# Altium footprint library Connectors-WR-PHD_Pin Header.PcbLib: 232 footprints (part 14 of 15)
Each footprint in its own frame and in the unit in brackets; x right, y up, seen from the top. Pads: shape width x height; smd on the part's side, far side on the other; paste and mask are expansions set on the pad; w line width, h text height; cw(c..) or ccw(c..) is an arc to the next point about the centre after c.
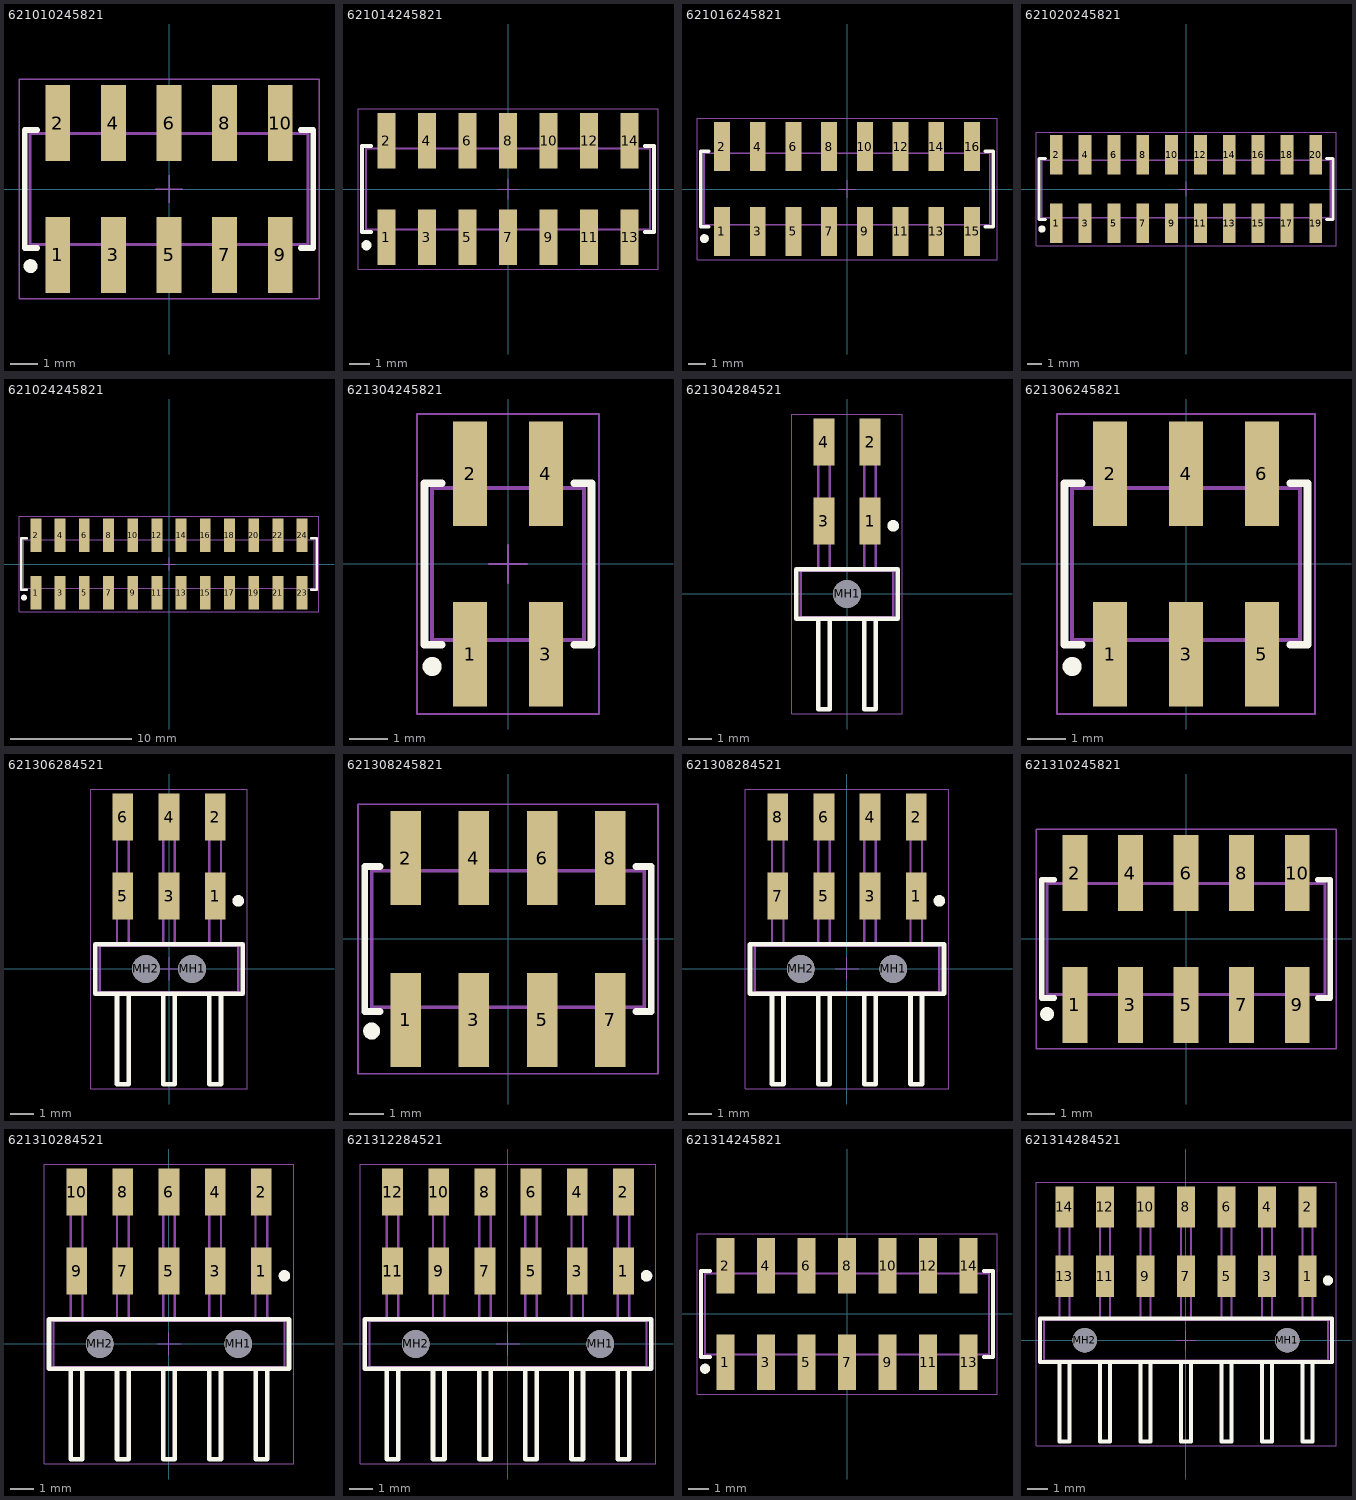
[diagram p13: the footprints below, top view; thin cyan lines are the x and y axes]

## 621010245821 [mm] "Pin Header, pitch 2.00 mm, SMD, Vertical, dual row, 10p"
height 4.8
pads (10):
  rect 0.89x2.75 smd: 1(-4,-2.375) 2(-4,2.375) 3(-2,-2.375) 4(-2,2.375) 5(0,-2.375) 6(0,2.375) 7(2,-2.375) 8(2,2.375) 9(4,-2.375) 10(4,2.375)
Top Overlay:
  circle w0.25: c-4.985,-2.776 r0.125
  lines w0.2: -4.75,-2.125 -5.2,-2.125 -5.2,2.125 -4.75,2.125 ; 4.75,-2.125 5.2,-2.125 5.2,2.125 4.75,2.125
Top Designator:
  text ".Designator" at -7.498,-0.5 h1.5
Top Component Outline:
  lines w0.1: -4.25,-2 -4.25,-3.1 -3.75,-3.1 -3.75,-2 ; -4.25,2 -4.25,3.1 -3.75,3.1 -3.75,2 ; -2.25,-2 -2.25,-3.1 -1.75,-3.1 -1.75,-2 ; -2.25,2 -2.25,3.1 -1.75,3.1 -1.75,2 ; -0.25,-2 -0.25,-3.1 0.25,-3.1 0.25,-2 ; -0.25,2 -0.25,3.1 0.25,3.1 0.25,2 ; 1.75,-2 1.75,-3.1 2.25,-3.1 2.25,-2 ; 1.75,2 1.75,3.1 2.25,3.1 2.25,2 ; 3.75,-2 3.75,-3.1 4.25,-3.1 4.25,-2 ; 3.75,2 3.75,3.1 4.25,3.1 4.25,2 ; -5,-2 5,-2 5,2 -5,2 -5,-2
Top Courtyard:
  lines w0.05: -5.4,-3.95 5.4,-3.95 5.4,3.95 -5.4,3.95 -5.4,-3.95
Top Component Center:
  lines w0.05: -0.5,0 0.5,0 ; 0,-0.5 0,0.5
3D body "621010245821.stp": height 4.7, standoff 0, extent -5,-3.1 5,3.1

## 621014245821 [mm] "Pin Header, pitch 2.00 mm, SMD, Vertical, dual row, 14p"
height 4.8
pads (14):
  rect 0.89x2.75 smd: 1(-6,-2.375) 2(-6,2.375) 3(-4,-2.375) 4(-4,2.375) 5(-2,-2.375) 6(-2,2.375) 7(0,-2.375) 8(0,2.375) 9(2,-2.375) 10(2,2.375) 11(4,-2.375) 12(4,2.375) 13(6,-2.375) 14(6,2.375)
Top Overlay:
  circle w0.25: c-6.985,-2.776 r0.125
  lines w0.2: -6.75,-2.125 -7.2,-2.125 -7.2,2.125 -6.75,2.125 ; 6.75,-2.125 7.2,-2.125 7.2,2.125 6.75,2.125
Top Designator:
  text ".Designator" at -7.498,-0.5 h1.5
Top Component Outline:
  lines w0.1: -6.25,-2 -6.25,-3.1 -5.75,-3.1 -5.75,-2 ; -6.25,2 -6.25,3.1 -5.75,3.1 -5.75,2 ; -4.25,-2 -4.25,-3.1 -3.75,-3.1 -3.75,-2 ; -4.25,2 -4.25,3.1 -3.75,3.1 -3.75,2 ; -2.25,-2 -2.25,-3.1 -1.75,-3.1 -1.75,-2 ; -2.25,2 -2.25,3.1 -1.75,3.1 -1.75,2 ; -0.25,-2 -0.25,-3.1 0.25,-3.1 0.25,-2 ; -0.25,2 -0.25,3.1 0.25,3.1 0.25,2 ; 1.75,-2 1.75,-3.1 2.25,-3.1 2.25,-2 ; 1.75,2 1.75,3.1 2.25,3.1 2.25,2 ; 3.75,-2 3.75,-3.1 4.25,-3.1 4.25,-2 ; 3.75,2 3.75,3.1 4.25,3.1 4.25,2 ; 5.75,-2 5.75,-3.1 6.25,-3.1 6.25,-2 ; 5.75,2 5.75,3.1 6.25,3.1 6.25,2 ; -7,-2 7,-2 7,2 -7,2 -7,-2
Top Courtyard:
  lines w0.05: -7.4,-3.95 7.4,-3.95 7.4,3.95 -7.4,3.95 -7.4,-3.95
Top Component Center:
  lines w0.05: -0.5,0 0.5,0 ; 0,-0.5 0,0.5
3D body "621014245821.stp": height 4.7, standoff 0, extent -7,-3.1 7,3.1

## 621016245821 [mm] "Pin Header, pitch 2.00 mm, SMD, Vertical, dual row, 16p"
height 4.8
pads (16):
  rect 0.89x2.75 smd: 1(-7,-2.375) 2(-7,2.375) 3(-5,-2.375) 4(-5,2.375) 5(-3,-2.375) 6(-3,2.375) 7(-1,-2.375) 8(-1,2.375) 9(1,-2.375) 10(1,2.375) 11(3,-2.375) 12(3,2.375) 13(5,-2.375) 14(5,2.375) 15(7,-2.375) 16(7,2.375)
Top Overlay:
  circle w0.25: c-7.985,-2.776 r0.125
  lines w0.2: -7.75,-2.125 -8.2,-2.125 -8.2,2.125 -7.75,2.125 ; 7.75,-2.125 8.2,-2.125 8.2,2.125 7.75,2.125
Top Designator:
  text ".Designator" at -7.498,-0.5 h1.5
Top Component Outline:
  lines w0.1: -7.25,-2 -7.25,-3.1 -6.75,-3.1 -6.75,-2 ; -7.25,2 -7.25,3.1 -6.75,3.1 -6.75,2 ; -5.25,-2 -5.25,-3.1 -4.75,-3.1 -4.75,-2 ; -5.25,2 -5.25,3.1 -4.75,3.1 -4.75,2 ; -3.25,-2 -3.25,-3.1 -2.75,-3.1 -2.75,-2 ; -3.25,2 -3.25,3.1 -2.75,3.1 -2.75,2 ; -1.25,-2 -1.25,-3.1 -0.75,-3.1 -0.75,-2 ; -1.25,2 -1.25,3.1 -0.75,3.1 -0.75,2 ; 0.75,-2 0.75,-3.1 1.25,-3.1 1.25,-2 ; 0.75,2 0.75,3.1 1.25,3.1 1.25,2 ; 2.75,-2 2.75,-3.1 3.25,-3.1 3.25,-2 ; 2.75,2 2.75,3.1 3.25,3.1 3.25,2 ; 4.75,-2 4.75,-3.1 5.25,-3.1 5.25,-2 ; 4.75,2 4.75,3.1 5.25,3.1 5.25,2 ; 6.75,-2 6.75,-3.1 7.25,-3.1 7.25,-2 ; 6.75,2 6.75,3.1 7.25,3.1 7.25,2 ; -8,-2 -8,2 8,2 8,-2 -8,-2
Top Courtyard:
  lines w0.05: -8.4,-3.95 -8.4,3.95 8.4,3.95 8.4,-3.95 -8.4,-3.95
Top Component Center:
  lines w0.05: -0.5,0 0.5,0 ; 0,-0.5 0,0.5
3D body "621016245821.stp": height 4.7, standoff 0, extent -8,-3.1 8,3.1

## 621020245821 [mm] "Pin Header, pitch 2.00 mm, SMD, Vertical, dual row, 20p"
height 4.8
pads (20):
  rect 0.89x2.75 smd: 1(-9,-2.375) 2(-9,2.375) 3(-7,-2.375) 4(-7,2.375) 5(-5,-2.375) 6(-5,2.375) 7(-3,-2.375) 8(-3,2.375) 9(-1,-2.375) 10(-1,2.375) 11(1,-2.375) 12(1,2.375) 13(3,-2.375) 14(3,2.375) 15(5,-2.375) 16(5,2.375) 17(7,-2.375) 18(7,2.375) 19(9,-2.375) 20(9,2.375)
Top Overlay:
  circle w0.25: c-9.985,-2.776 r0.125
  lines w0.2: -9.75,-2.125 -10.2,-2.125 -10.2,2.125 -9.75,2.125 ; 9.75,-2.125 10.2,-2.125 10.2,2.125 9.75,2.125
Top Designator:
  text ".Designator" at -7.498,-0.5 h1.5
Top Component Outline:
  lines w0.1: -9.25,-2 -9.25,-3.1 -8.75,-3.1 -8.75,-2 ; -9.25,2 -9.25,3.1 -8.75,3.1 -8.75,2 ; -7.25,-2 -7.25,-3.1 -6.75,-3.1 -6.75,-2 ; -7.25,2 -7.25,3.1 -6.75,3.1 -6.75,2 ; -5.25,-2 -5.25,-3.1 -4.75,-3.1 -4.75,-2 ; -5.25,2 -5.25,3.1 -4.75,3.1 -4.75,2 ; -3.25,-2 -3.25,-3.1 -2.75,-3.1 -2.75,-2 ; -3.25,2 -3.25,3.1 -2.75,3.1 -2.75,2 ; -1.25,-2 -1.25,-3.1 -0.75,-3.1 -0.75,-2 ; -1.25,2 -1.25,3.1 -0.75,3.1 -0.75,2 ; 0.75,-2 0.75,-3.1 1.25,-3.1 1.25,-2 ; 0.75,2 0.75,3.1 1.25,3.1 1.25,2 ; 2.75,-2 2.75,-3.1 3.25,-3.1 3.25,-2 ; 2.75,2 2.75,3.1 3.25,3.1 3.25,2 ; 4.75,-2 4.75,-3.1 5.25,-3.1 5.25,-2 ; 4.75,2 4.75,3.1 5.25,3.1 5.25,2 ; 6.75,-2 6.75,-3.1 7.25,-3.1 7.25,-2 ; 6.75,2 6.75,3.1 7.25,3.1 7.25,2 ; 8.75,-2 8.75,-3.1 9.25,-3.1 9.25,-2 ; 8.75,2 8.75,3.1 9.25,3.1 9.25,2 ; -10,-2 -10,2 10,2 10,-2 -10,-2
Top Courtyard:
  lines w0.05: -10.4,-3.95 -10.4,3.95 10.4,3.95 10.4,-3.95 -10.4,-3.95
Top Component Center:
  lines w0.05: -0.5,0 0.5,0 ; 0,-0.5 0,0.5
3D body "621020245821.stp": height 4.7, standoff 0, extent -10,-3.1 10,3.1

## 621024245821 [mm] "Pin Header, pitch 2.00 mm, SMD, Vertical, dual row, 24p"
height 4.8
pads (24):
  rect 0.89x2.75 smd: 1(-11,-2.375) 2(-11,2.375) 3(-9,-2.375) 4(-9,2.375) 5(-7,-2.375) 6(-7,2.375) 7(-5,-2.375) 8(-5,2.375) 9(-3,-2.375) 10(-3,2.375) 11(-1,-2.375) 12(-1,2.375) 13(1,-2.375) 14(1,2.375) 15(3,-2.375) 16(3,2.375) 17(5,-2.375) 18(5,2.375) 19(7,-2.375) 20(7,2.375) 21(9,-2.375) 22(9,2.375) 23(11,-2.375) 24(11,2.375)
Top Overlay:
  circle w0.25: c-11.985,-2.776 r0.125
  lines w0.2: -11.75,-2.125 -12.2,-2.125 -12.2,2.125 -11.75,2.125 ; 11.75,-2.125 12.2,-2.125 12.2,2.125 11.75,2.125
Top Designator:
  text ".Designator" at -7.498,-0.5 h1.5
Top Component Outline:
  lines w0.1: -11.25,-2 -11.25,-3.1 -10.75,-3.1 -10.75,-2 ; -11.25,2 -11.25,3.1 -10.75,3.1 -10.75,2 ; -9.25,-2 -9.25,-3.1 -8.75,-3.1 -8.75,-2 ; -9.25,2 -9.25,3.1 -8.75,3.1 -8.75,2 ; -7.25,-2 -7.25,-3.1 -6.75,-3.1 -6.75,-2 ; -7.25,2 -7.25,3.1 -6.75,3.1 -6.75,2 ; -5.25,-2 -5.25,-3.1 -4.75,-3.1 -4.75,-2 ; -5.25,2 -5.25,3.1 -4.75,3.1 -4.75,2 ; -3.25,-2 -3.25,-3.1 -2.75,-3.1 -2.75,-2 ; -3.25,2 -3.25,3.1 -2.75,3.1 -2.75,2 ; -1.25,-2 -1.25,-3.1 -0.75,-3.1 -0.75,-2 ; -1.25,2 -1.25,3.1 -0.75,3.1 -0.75,2 ; 0.75,-2 0.75,-3.1 1.25,-3.1 1.25,-2 ; 0.75,2 0.75,3.1 1.25,3.1 1.25,2 ; 2.75,-2 2.75,-3.1 3.25,-3.1 3.25,-2 ; 2.75,2 2.75,3.1 3.25,3.1 3.25,2 ; 4.75,-2 4.75,-3.1 5.25,-3.1 5.25,-2 ; 4.75,2 4.75,3.1 5.25,3.1 5.25,2 ; 6.75,-2 6.75,-3.1 7.25,-3.1 7.25,-2 ; 6.75,2 6.75,3.1 7.25,3.1 7.25,2 ; 8.75,-2 8.75,-3.1 9.25,-3.1 9.25,-2 ; 8.75,2 8.75,3.1 9.25,3.1 9.25,2 ; 10.75,-2 10.75,-3.1 11.25,-3.1 11.25,-2 ; 10.75,2 10.75,3.1 11.25,3.1 11.25,2 ; -12,-2 12,-2 12,2 -12,2 -12,-2
Top Courtyard:
  lines w0.05: -12.4,-3.95 12.4,-3.95 12.4,3.95 -12.4,3.95 -12.4,-3.95
Top Component Center:
  lines w0.05: -0.5,0 0.5,0 ; 0,-0.5 0,0.5
3D body "621024245821.stp": height 4.7, standoff 0, extent -12,-3.1 12,3.1

## 621304245821 [mm] "2.00 mm SMT Dual Pin Header Low Profile (Reel), 4p"
height 4.7
pads (4):
  rect 0.89x2.75 smd: 1(-1,-2.375) 2(-1,2.375) 3(1,-2.375) 4(1,2.375)
Top Overlay:
  circle w0.25: c-2,-2.7 r0.125
  lines w0.2: -1.75,-2.125 -2.2,-2.125 -2.2,2.125 -1.75,2.125 ; 1.75,-2.125 2.2,-2.125 2.2,2.125 1.75,2.125
Top Designator:
  text ".Designator" at -4.998,-0.333 h1
Top Component Outline:
  lines w0.1: -1.25,-2 -1.25,-3.1 -0.75,-3.1 -0.75,-2 ; -1.25,2 -1.25,3.1 -0.75,3.1 -0.75,2 ; 0.75,-2 0.75,-3.1 1.25,-3.1 1.25,-2 ; 0.75,2 0.75,3.1 1.25,3.1 1.25,2 ; -2,-2 2,-2 2,2 -2,2 -2,-2
Top Courtyard:
  lines w0.05: -2.4,-3.95 2.4,-3.95 2.4,3.95 -2.4,3.95 -2.4,-3.95
Top Component Center:
  lines w0.05: -0.5,0 0.5,0 ; 0,-0.5 0,0.5
3D body "621304245821.stp": height 4.7, standoff 0, extent -2,-3.1 2,3.1

## 621304284521 [mm] "Pin Header, pitch 2.00 mm, SMD, Angled, dual row, 4p"
height 5.5
pads (5):
  rect 0.9x2.03 smd: 1(1,3.16) 2(1,6.58) 3(-1,3.16) 4(-1,6.58)
  round 1.2 hole 1.2 unplated: MH1(0,0)
Top Overlay:
  circle w0.25: c2,2.95 r0.125
  lines w0.2: -1.25,-1.075 -1.25,-5 -0.75,-5 -0.75,-1.075 ; 0.75,-1.075 0.75,-5 1.25,-5 1.25,-1.075 ; -2.2,-1.075 -2.2,1.075 2.2,1.075 2.2,-1.075 -2.2,-1.075
Top Designator:
  text ".Designator" at -5.998,-0.4 h1.2
Top Component Outline:
  lines w0.1: -1.25,-1 -1.25,-5 -0.75,-5 -0.75,-1 ; -1.25,1 -1.25,7.22 -0.75,7.22 -0.75,1 ; -1.25,3.8 -0.75,3.8 ; 0.75,-1 0.75,-5 1.25,-5 1.25,-1 ; 0.75,1 0.75,7.22 1.25,7.22 1.25,1 ; 0.75,3.8 1.25,3.8 ; -2,-1 2,-1 2,1 -2,1 -2,-1
Top Courtyard:
  lines w0.05: -2.4,-5.2 2.4,-5.2 2.4,7.795 -2.4,7.795 -2.4,-5.2
Top Component Center:
  lines w0.05: -0.5,0 0.5,0 ; 0,-0.5 0,0.5
3D body "621304284521.stp": height 4.02, standoff -0.98, extent -2,-5 2,7.22

## 621306245821 [mm] "2.00 mm SMT Dual Pin Header Low Profile (Reel), 6p"
height 4.7
pads (6):
  rect 0.89x2.75 smd: 1(-2,-2.375) 2(-2,2.375) 3(0,-2.375) 4(0,2.375) 5(2,-2.375) 6(2,2.375)
Top Overlay:
  circle w0.25: c-3,-2.7 r0.125
  lines w0.2: -2.75,-2.125 -3.2,-2.125 -3.2,2.125 -2.75,2.125 ; 2.75,-2.125 3.2,-2.125 3.2,2.125 2.75,2.125
Top Component Outline:
  lines w0.1: -2.25,-2 -2.25,-3.1 -1.75,-3.1 -1.75,-2 ; -2.25,2 -2.25,3.1 -1.75,3.1 -1.75,2 ; -0.25,-2 -0.25,-3.1 0.25,-3.1 0.25,-2 ; -0.25,2 -0.25,3.1 0.25,3.1 0.25,2 ; 1.75,-2 1.75,-3.1 2.25,-3.1 2.25,-2 ; 1.75,2 1.75,3.1 2.25,3.1 2.25,2 ; -3,-2 -3,2 3,2 3,-2 -3,-2
Top Courtyard:
  lines w0.05: -3.4,-3.95 -3.4,3.95 3.4,3.95 3.4,-3.95 -3.4,-3.95
3D body "621306245821.stp": height 4.7, standoff 0, extent -3,-3.1 3,3.1

## 621306284521 [mm] "Pin Header, pitch 2.00 mm, SMD, Angled, dual row, 6p"
height 5.5
pads (8):
  rect 0.9x2.03 smd: 1(2,3.16) 2(2,6.58) 3(0,3.16) 4(0,6.58) 5(-2,3.16) 6(-2,6.58)
  round 1.2 hole 1.2 unplated: MH1(1,0) MH2(-1,0)
Top Overlay:
  circle w0.25: c3,2.95 r0.125
  lines w0.2: -2.25,-1.075 -2.25,-5 -1.75,-5 -1.75,-1.075 ; -0.25,-1.075 -0.25,-5 0.25,-5 0.25,-1.075 ; 1.75,-1.075 1.75,-5 2.25,-5 2.25,-1.075 ; -3.2,-1.075 -3.2,1.075 3.2,1.075 3.2,-1.075 -3.2,-1.075
Top Designator:
  text ".Designator" at -5.998,-0.4 h1.2
Top Component Outline:
  lines w0.1: -2.25,-1 -2.25,-5 -1.75,-5 -1.75,-1 ; -2.25,1 -2.25,7.22 -1.75,7.22 -1.75,1 ; -2.25,3.8 -1.75,3.8 ; -0.25,-1 -0.25,-5 0.25,-5 0.25,-1 ; -0.25,1 -0.25,7.22 0.25,7.22 0.25,1 ; -0.25,3.8 0.25,3.8 ; 1.75,-1 1.75,-5 2.25,-5 2.25,-1 ; 1.75,1 1.75,7.22 2.25,7.22 2.25,1 ; 1.75,3.8 2.25,3.8 ; -3,-1 3,-1 3,1 -3,1 -3,-1
Top Courtyard:
  lines w0.05: -3.4,-5.2 3.4,-5.2 3.4,7.795 -3.4,7.795 -3.4,-5.2
Top Component Center:
  lines w0.05: -0.5,0 0.5,0 ; 0,-0.5 0,0.5
3D body "621306284521.stp": height 4.02, standoff -0.98, extent -3,-5 3,7.22

## 621308245821 [mm] "2.00 mm SMT Dual Pin Header Low Profile (Reel), 8p"
height 4.7
pads (8):
  rect 0.89x2.75 smd: 1(-3,-2.375) 2(-3,2.375) 3(-1,-2.375) 4(-1,2.375) 5(1,-2.375) 6(1,2.375) 7(3,-2.375) 8(3,2.375)
Top Overlay:
  circle w0.25: c-4,-2.7 r0.125
  lines w0.2: -3.75,-2.125 -4.2,-2.125 -4.2,2.125 -3.75,2.125 ; 3.75,-2.125 4.2,-2.125 4.2,2.125 3.75,2.125
Top Component Outline:
  lines w0.1: -3.25,-2 -3.25,-3.1 -2.75,-3.1 -2.75,-2 ; -3.25,2 -3.25,3.1 -2.75,3.1 -2.75,2 ; -1.25,-2 -1.25,-3.1 -0.75,-3.1 -0.75,-2 ; -1.25,2 -1.25,3.1 -0.75,3.1 -0.75,2 ; 0.75,-2 0.75,-3.1 1.25,-3.1 1.25,-2 ; 0.75,2 0.75,3.1 1.25,3.1 1.25,2 ; 2.75,-2 2.75,-3.1 3.25,-3.1 3.25,-2 ; 2.75,2 2.75,3.1 3.25,3.1 3.25,2 ; -4,-2 -4,2 4,2 4,-2 -4,-2
Top Courtyard:
  lines w0.05: -4.4,-3.95 -4.4,3.95 4.4,3.95 4.4,-3.95 -4.4,-3.95
3D body "621308245821.stp": height 4.7, standoff 0, extent -4,-3.1 4,3.1

## 621308284521 [mm] "Pin Header, pitch 2.00 mm, SMD, Angled, dual row, 8p"
height 5.5
pads (10):
  rect 0.9x2.03 smd: 1(3,3.16) 2(3,6.58) 3(1,3.16) 4(1,6.58) 5(-1,3.16) 6(-1,6.58) 7(-3,3.16) 8(-3,6.58)
  round 1.2 hole 1.2 unplated: MH1(2,0) MH2(-2,0)
Top Overlay:
  circle w0.25: c4,2.95 r0.125
  lines w0.2: -3.25,-1.075 -3.25,-5 -2.75,-5 -2.75,-1.075 ; -1.25,-1.075 -1.25,-5 -0.75,-5 -0.75,-1.075 ; 0.75,-1.075 0.75,-5 1.25,-5 1.25,-1.075 ; 2.75,-1.075 2.75,-5 3.25,-5 3.25,-1.075 ; -4.2,-1.075 -4.2,1.075 4.2,1.075 4.2,-1.075 -4.2,-1.075
Top Designator:
  text ".Designator" at -5.998,-0.4 h1.2
Top Component Outline:
  lines w0.1: -3.25,-1 -3.25,-5 -2.75,-5 -2.75,-1 ; -3.25,1 -3.25,7.22 -2.75,7.22 -2.75,1 ; -3.25,3.8 -2.75,3.8 ; -1.25,-1 -1.25,-5 -0.75,-5 -0.75,-1 ; -1.25,1 -1.25,7.22 -0.75,7.22 -0.75,1 ; -1.25,3.8 -0.75,3.8 ; 0.75,-1 0.75,-5 1.25,-5 1.25,-1 ; 0.75,1 0.75,7.22 1.25,7.22 1.25,1 ; 0.75,3.8 1.25,3.8 ; 2.75,-1 2.75,-5 3.25,-5 3.25,-1 ; 2.75,1 2.75,7.22 3.25,7.22 3.25,1 ; 2.75,3.8 3.25,3.8 ; -4,-1 4,-1 4,1 -4,1 -4,-1
Top Courtyard:
  lines w0.05: -4.4,-5.2 4.4,-5.2 4.4,7.795 -4.4,7.795 -4.4,-5.2
Top Component Center:
  lines w0.05: -0.5,0 0.5,0 ; 0,-0.5 0,0.5
3D body "621308284521.stp": height 4.02, standoff -0.98, extent -4,-5 4,7.22

## 621310245821 [mm] "2.00 mm SMT Dual Pin Header Low Profile (Reel), 10p"
height 4.7
pads (10):
  rect 0.89x2.75 smd: 1(-4,-2.375) 2(-4,2.375) 3(-2,-2.375) 4(-2,2.375) 5(0,-2.375) 6(0,2.375) 7(2,-2.375) 8(2,2.375) 9(4,-2.375) 10(4,2.375)
Top Overlay:
  circle w0.25: c-5,-2.7 r0.125
  lines w0.2: -4.75,-2.125 -5.2,-2.125 -5.2,2.125 -4.75,2.125 ; 4.75,-2.125 5.2,-2.125 5.2,2.125 4.75,2.125
Top Component Outline:
  lines w0.1: -4.25,-2 -4.25,-3.1 -3.75,-3.1 -3.75,-2 ; -4.25,2 -4.25,3.1 -3.75,3.1 -3.75,2 ; -2.25,-2 -2.25,-3.1 -1.75,-3.1 -1.75,-2 ; -2.25,2 -2.25,3.1 -1.75,3.1 -1.75,2 ; -0.25,-2 -0.25,-3.1 0.25,-3.1 0.25,-2 ; -0.25,2 -0.25,3.1 0.25,3.1 0.25,2 ; 1.75,-2 1.75,-3.1 2.25,-3.1 2.25,-2 ; 1.75,2 1.75,3.1 2.25,3.1 2.25,2 ; 3.75,-2 3.75,-3.1 4.25,-3.1 4.25,-2 ; 3.75,2 3.75,3.1 4.25,3.1 4.25,2 ; -5,-2 5,-2 5,2 -5,2 -5,-2
Top Courtyard:
  lines w0.05: -5.4,-3.95 5.4,-3.95 5.4,3.95 -5.4,3.95 -5.4,-3.95
3D body "621310245821.stp": height 4.7, standoff 0, extent -5,-3.1 5,3.1

## 621310284521 [mm] "Pin Header, pitch 2.00 mm, SMD, Angled, dual row, 10p"
height 5.5
pads (12):
  rect 0.9x2.03 smd: 1(4,3.16) 2(4,6.58) 3(2,3.16) 4(2,6.58) 5(0,3.16) 6(0,6.58) 7(-2,3.16) 8(-2,6.58) 9(-4,3.16) 10(-4,6.58)
  round 1.2 hole 1.2 unplated: MH1(3,0) MH2(-3,0)
Top Overlay:
  circle w0.25: c5,2.95 r0.125
  lines w0.2: -4.25,-1.075 -4.25,-5 -3.75,-5 -3.75,-1.075 ; -2.25,-1.075 -2.25,-5 -1.75,-5 -1.75,-1.075 ; -0.25,-1.075 -0.25,-5 0.25,-5 0.25,-1.075 ; 1.75,-1.075 1.75,-5 2.25,-5 2.25,-1.075 ; 3.75,-1.075 3.75,-5 4.25,-5 4.25,-1.075 ; -5.2,-1.075 -5.2,1.075 5.2,1.075 5.2,-1.075 -5.2,-1.075
Top Designator:
  text ".Designator" at -5.998,-0.4 h1.2
Top Component Outline:
  lines w0.1: -4.25,-1 -4.25,-5 -3.75,-5 -3.75,-1 ; -4.25,1 -4.25,7.22 -3.75,7.22 -3.75,1 ; -4.25,3.8 -3.75,3.8 ; -2.25,-1 -2.25,-5 -1.75,-5 -1.75,-1 ; -2.25,1 -2.25,7.22 -1.75,7.22 -1.75,1 ; -2.25,3.8 -1.75,3.8 ; -0.25,-1 -0.25,-5 0.25,-5 0.25,-1 ; -0.25,1 -0.25,7.22 0.25,7.22 0.25,1 ; -0.25,3.8 0.25,3.8 ; 1.75,-1 1.75,-5 2.25,-5 2.25,-1 ; 1.75,1 1.75,7.22 2.25,7.22 2.25,1 ; 1.75,3.8 2.25,3.8 ; 3.75,-1 3.75,-5 4.25,-5 4.25,-1 ; 3.75,1 3.75,7.22 4.25,7.22 4.25,1 ; 3.75,3.8 4.25,3.8 ; -5,-1 5,-1 5,1 -5,1 -5,-1
Top Courtyard:
  lines w0.05: -5.4,-5.2 5.4,-5.2 5.4,7.795 -5.4,7.795 -5.4,-5.2
Top Component Center:
  lines w0.05: -0.5,0 0.5,0 ; 0,-0.5 0,0.5
3D body "621310284521.stp": height 4.02, standoff -0.98, extent -5,-5 5,7.22

## 621312284521 [mm] "Pin Header, pitch 2.00 mm, SMD, Angled, dual row, 12p"
height 5.5
pads (14):
  rect 0.9x2.03 smd: 1(5,3.16) 2(5,6.58) 3(3,3.16) 4(3,6.58) 5(1,3.16) 6(1,6.58) 7(-1,3.16) 8(-1,6.58) 9(-3,3.16) 10(-3,6.58) 11(-5,3.16) 12(-5,6.58)
  round 1.2 hole 1.2 unplated: MH1(4,0) MH2(-4,0)
Top Overlay:
  circle w0.25: c6,2.95 r0.125
  lines w0.2: -5.25,-1.075 -5.25,-5 -4.75,-5 -4.75,-1.075 ; -3.25,-1.075 -3.25,-5 -2.75,-5 -2.75,-1.075 ; -1.25,-1.075 -1.25,-5 -0.75,-5 -0.75,-1.075 ; 0.75,-1.075 0.75,-5 1.25,-5 1.25,-1.075 ; 2.75,-1.075 2.75,-5 3.25,-5 3.25,-1.075 ; 4.75,-1.075 4.75,-5 5.25,-5 5.25,-1.075 ; -6.2,-1.075 -6.2,1.075 6.2,1.075 6.2,-1.075 -6.2,-1.075
Top Designator:
  text ".Designator" at -5.998,-0.4 h1.2
Top Component Outline:
  lines w0.1: -5.25,-1 -5.25,-5 -4.75,-5 -4.75,-1 ; -5.25,1 -5.25,7.22 -4.75,7.22 -4.75,1 ; -5.25,3.8 -4.75,3.8 ; -3.25,-1 -3.25,-5 -2.75,-5 -2.75,-1 ; -3.25,1 -3.25,7.22 -2.75,7.22 -2.75,1 ; -3.25,3.8 -2.75,3.8 ; -1.25,-1 -1.25,-5 -0.75,-5 -0.75,-1 ; -1.25,1 -1.25,7.22 -0.75,7.22 -0.75,1 ; -1.25,3.8 -0.75,3.8 ; 0.75,-1 0.75,-5 1.25,-5 1.25,-1 ; 0.75,1 0.75,7.22 1.25,7.22 1.25,1 ; 0.75,3.8 1.25,3.8 ; 2.75,-1 2.75,-5 3.25,-5 3.25,-1 ; 2.75,1 2.75,7.22 3.25,7.22 3.25,1 ; 2.75,3.8 3.25,3.8 ; 4.75,-1 4.75,-5 5.25,-5 5.25,-1 ; 4.75,1 4.75,7.22 5.25,7.22 5.25,1 ; 4.75,3.8 5.25,3.8 ; -6,-1 6,-1 6,1 -6,1 -6,-1
Top Courtyard:
  lines w0.05: -6.4,-5.2 6.4,-5.2 6.4,7.795 -6.4,7.795 -6.4,-5.2
Top Component Center:
  lines w0.05: -0.5,0 0.5,0 ; 0,-0.5 0,0.5
3D body "621312284521.stp": height 4.02, standoff -0.98, extent -6,-5 6,7.22

## 621314245821 [mm] "2.00 mm SMT Dual Pin Header Low Profile (Reel), 14p"
height 4.7
pads (14):
  rect 0.89x2.75 smd: 1(-6,-2.375) 2(-6,2.375) 3(-4,-2.375) 4(-4,2.375) 5(-2,-2.375) 6(-2,2.375) 7(0,-2.375) 8(0,2.375) 9(2,-2.375) 10(2,2.375) 11(4,-2.375) 12(4,2.375) 13(6,-2.375) 14(6,2.375)
Top Overlay:
  circle w0.25: c-7,-2.7 r0.125
  lines w0.2: -6.75,-2.125 -7.2,-2.125 -7.2,2.125 -6.75,2.125 ; 6.75,-2.125 7.2,-2.125 7.2,2.125 6.75,2.125
Top Component Outline:
  lines w0.1: -6.25,-2 -6.25,-3.1 -5.75,-3.1 -5.75,-2 ; -6.25,2 -6.25,3.1 -5.75,3.1 -5.75,2 ; -4.25,-2 -4.25,-3.1 -3.75,-3.1 -3.75,-2 ; -4.25,2 -4.25,3.1 -3.75,3.1 -3.75,2 ; -2.25,-2 -2.25,-3.1 -1.75,-3.1 -1.75,-2 ; -2.25,2 -2.25,3.1 -1.75,3.1 -1.75,2 ; -0.25,-2 -0.25,-3.1 0.25,-3.1 0.25,-2 ; -0.25,2 -0.25,3.1 0.25,3.1 0.25,2 ; 1.75,-2 1.75,-3.1 2.25,-3.1 2.25,-2 ; 1.75,2 1.75,3.1 2.25,3.1 2.25,2 ; 3.75,-2 3.75,-3.1 4.25,-3.1 4.25,-2 ; 3.75,2 3.75,3.1 4.25,3.1 4.25,2 ; 5.75,-2 5.75,-3.1 6.25,-3.1 6.25,-2 ; 5.75,2 5.75,3.1 6.25,3.1 6.25,2 ; -7,-2 7,-2 7,2 -7,2 -7,-2
Top Courtyard:
  lines w0.05: -7.4,-3.95 7.4,-3.95 7.4,3.95 -7.4,3.95 -7.4,-3.95
3D body "621314245821.stp": height 4.7, standoff 0, extent -7,-3.1 7,3.1

## 621314284521 [mm] "Pin Header, pitch 2.00 mm, SMD, Angled, dual row, 14p"
height 5.5
pads (16):
  rect 0.9x2.03 smd: 1(6,3.16) 2(6,6.58) 3(4,3.16) 4(4,6.58) 5(2,3.16) 6(2,6.58) 7(0,3.16) 8(0,6.58) 9(-2,3.16) 10(-2,6.58) 11(-4,3.16) 12(-4,6.58) 13(-6,3.16) 14(-6,6.58)
  round 1.2 hole 1.2 unplated: MH1(5,0) MH2(-5,0)
Top Overlay:
  circle w0.25: c7,2.95 r0.125
  lines w0.2: -6.25,-1.075 -6.25,-5 -5.75,-5 -5.75,-1.075 ; -4.25,-1.075 -4.25,-5 -3.75,-5 -3.75,-1.075 ; -2.25,-1.075 -2.25,-5 -1.75,-5 -1.75,-1.075 ; -0.25,-1.075 -0.25,-5 0.25,-5 0.25,-1.075 ; 1.75,-1.075 1.75,-5 2.25,-5 2.25,-1.075 ; 3.75,-1.075 3.75,-5 4.25,-5 4.25,-1.075 ; 5.75,-1.075 5.75,-5 6.25,-5 6.25,-1.075 ; -7.2,-1.075 7.2,-1.075 7.2,1.075 -7.2,1.075 -7.2,-1.075
Top Designator:
  text ".Designator" at -5.998,-0.4 h1.2
Top Component Outline:
  lines w0.1: -6.25,-1 -6.25,-5 -5.75,-5 -5.75,-1 ; -6.25,1 -6.25,7.22 -5.75,7.22 -5.75,1 ; -6.25,3.8 -5.75,3.8 ; -4.25,-1 -4.25,-5 -3.75,-5 -3.75,-1 ; -4.25,1 -4.25,7.22 -3.75,7.22 -3.75,1 ; -4.25,3.8 -3.75,3.8 ; -2.25,-1 -2.25,-5 -1.75,-5 -1.75,-1 ; -2.25,1 -2.25,7.22 -1.75,7.22 -1.75,1 ; -2.25,3.8 -1.75,3.8 ; -0.25,-1 -0.25,-5 0.25,-5 0.25,-1 ; -0.25,1 -0.25,7.22 0.25,7.22 0.25,1 ; -0.25,3.8 0.25,3.8 ; 1.75,-1 1.75,-5 2.25,-5 2.25,-1 ; 1.75,1 1.75,7.22 2.25,7.22 2.25,1 ; 1.75,3.8 2.25,3.8 ; 3.75,-1 3.75,-5 4.25,-5 4.25,-1 ; 3.75,1 3.75,7.22 4.25,7.22 4.25,1 ; 3.75,3.8 4.25,3.8 ; 5.75,-1 5.75,-5 6.25,-5 6.25,-1 ; 5.75,1 5.75,7.22 6.25,7.22 6.25,1 ; 5.75,3.8 6.25,3.8 ; -7,-1 -7,1 7,1 7,-1 -7,-1
Top Courtyard:
  lines w0.05: -7.4,-5.2 -7.4,7.795 7.4,7.795 7.4,-5.2 -7.4,-5.2
Top Component Center:
  lines w0.05: -0.5,0 0.5,0 ; 0,-0.5 0,0.5
3D body "621314284521.stp": height 4.02, standoff -0.98, extent -7,-5 7,7.22